# Altium schematic symbol library WRA_ZP-3WR2.SchLib: 1 symbol
Pins are listed as number, name and electrical type; pins without a type are passive.

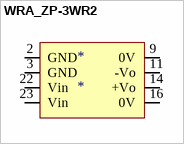
[diagram p0: symbol WRA_ZP-3WR2]

## WRA_ZP-3WR2
designator *
pins: 2 GND, 3 GND, 9 0V, 11 -Vo, 14 +Vo, 16 0V, 22 Vin, 23 Vin